# Altium schematic symbol library CONN_MICRO-MATCH.SchLib: 9 symbols
Pins are listed as number, name and electrical type; pins without a type are passive.

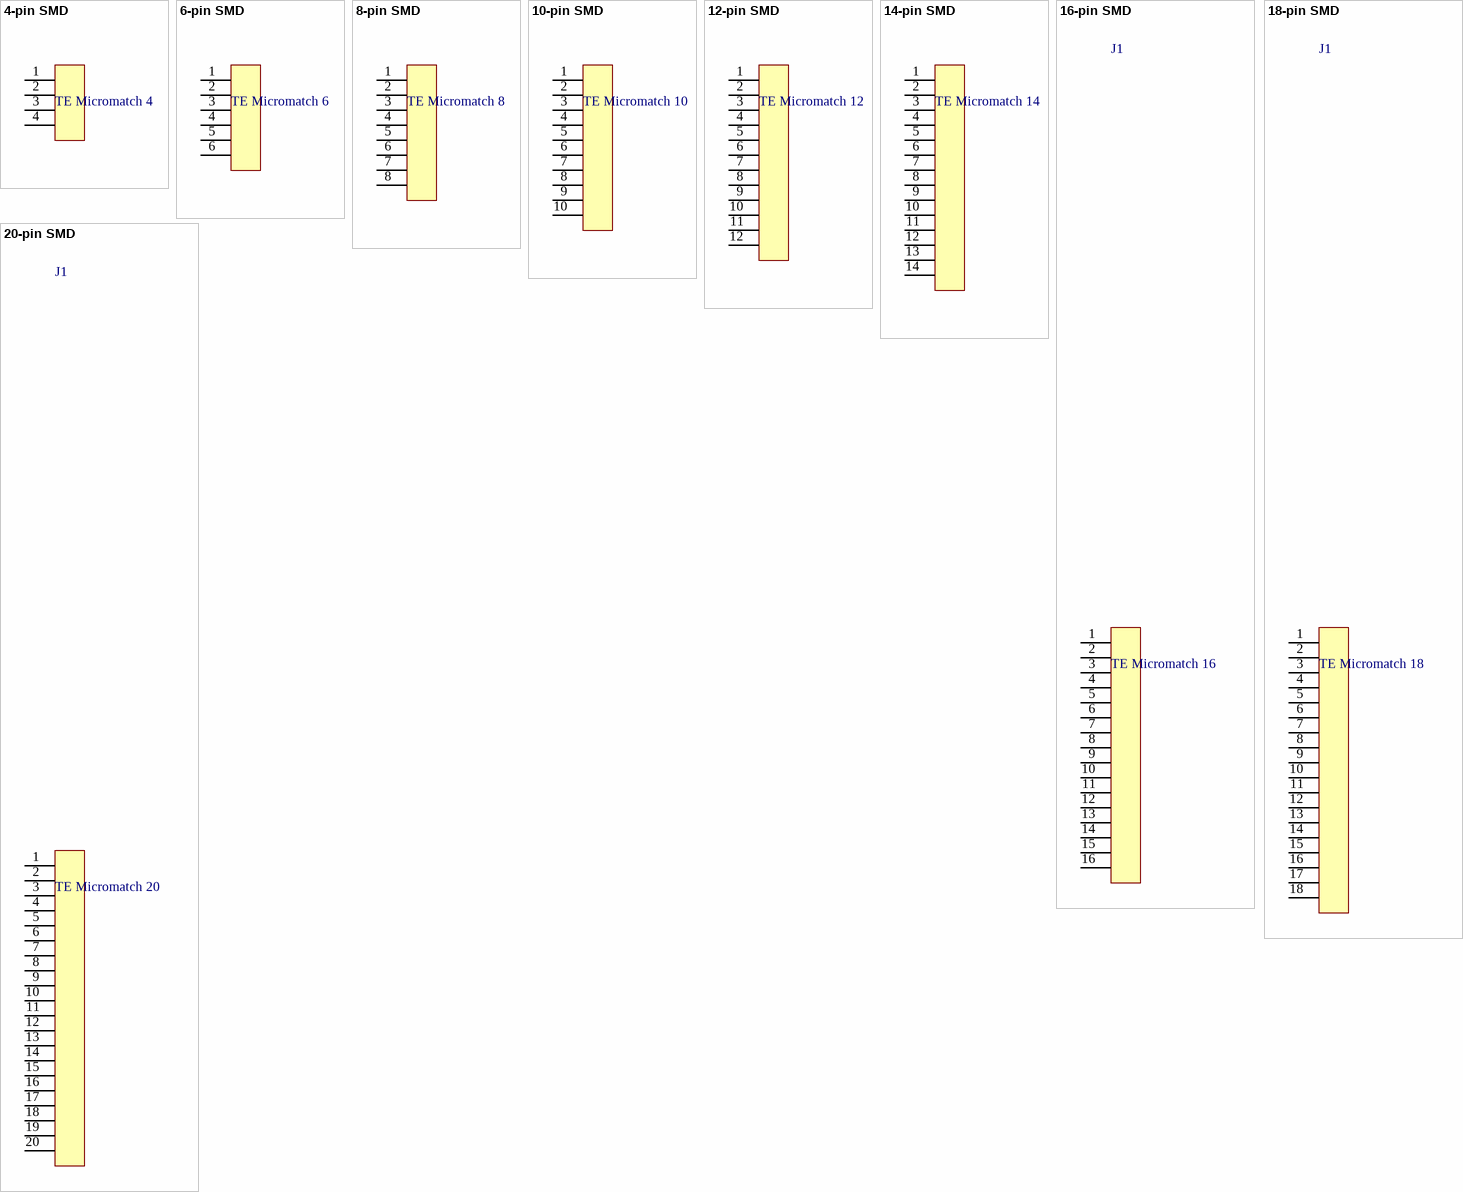
[diagram p0: symbols 4-pin SMD to 20-pin SMD]

## 4-pin SMD
designator J1, comment TE Micromatch 4
Micro-MaTch VALUE LINE FEMALE TOP ENTRY SMD CONNECTOR; Datasheet: http://www.te.com/commerce/DocumentDelivery/DDEController?Action=showdoc&DocId=Customer+Drawing%7F2178711%7FA%7Fpdf%7FEnglish%7FENG_CD_2178711_A_pdf_c-2178711_drw.pdf%7F2178711-4
footprint 4-pin_smd (2178711-4)
pins: 1, 2, 3, 4

## 6-pin SMD
designator J1, comment TE Micromatch 6
Micro-MaTch VALUE LINE FEMALE TOP ENTRY SMD CONNECTOR; Datasheet: http://www.te.com/commerce/DocumentDelivery/DDEController?Action=showdoc&DocId=Customer+Drawing%7F2178711%7FA%7Fpdf%7FEnglish%7FENG_CD_2178711_A_pdf_c-2178711_drw.pdf%7F2178711-4
footprint 6-pin_smd (2178711-6)
pins: 1, 2, 3, 4, 5, 6

## 8-pin SMD
designator J1, comment TE Micromatch 8
Micro-MaTch VALUE LINE FEMALE TOP ENTRY SMD CONNECTOR; Datasheet: http://www.te.com/commerce/DocumentDelivery/DDEController?Action=showdoc&DocId=Customer+Drawing%7F2178711%7FA%7Fpdf%7FEnglish%7FENG_CD_2178711_A_pdf_c-2178711_drw.pdf%7F2178711-4
footprint 8-pin_smd (2178711-8)
pins: 1, 2, 3, 4, 5, 6, 7, 8

## 10-pin SMD
designator J1, comment TE Micromatch 10
Micro-MaTch VALUE LINE FEMALE TOP ENTRY SMD CONNECTOR; Datasheet: http://www.te.com/commerce/DocumentDelivery/DDEController?Action=showdoc&DocId=Customer+Drawing%7F2178711%7FA%7Fpdf%7FEnglish%7FENG_CD_2178711_A_pdf_c-2178711_drw.pdf%7F2178711-4
footprint 10-pin_smd (1-2178711-0)
pins: 1, 2, 3, 4, 5, 6, 7, 8, 9, 10

## 12-pin SMD
designator J1, comment TE Micromatch 12
Micro-MaTch VALUE LINE FEMALE TOP ENTRY SMD CONNECTOR; Datasheet: http://www.te.com/commerce/DocumentDelivery/DDEController?Action=showdoc&DocId=Customer+Drawing%7F2178711%7FA%7Fpdf%7FEnglish%7FENG_CD_2178711_A_pdf_c-2178711_drw.pdf%7F2178711-4
footprint 12-pin_smd (1-2178711-2)
pins: 1, 2, 3, 4, 5, 6, 7, 8, 9, 10, 11, 12

## 14-pin SMD
designator J1, comment TE Micromatch 14
Micro-MaTch VALUE LINE FEMALE TOP ENTRY SMD CONNECTOR; Datasheet: http://www.te.com/commerce/DocumentDelivery/DDEController?Action=showdoc&DocId=Customer+Drawing%7F2178711%7FA%7Fpdf%7FEnglish%7FENG_CD_2178711_A_pdf_c-2178711_drw.pdf%7F2178711-4
footprint 14-pin_smd (1-2178711-4)
pins: 1, 2, 3, 4, 5, 6, 7, 8, 9, 10, 11, 12, 13, 14

## 16-pin SMD
designator J1, comment TE Micromatch 16
Micro-MaTch VALUE LINE FEMALE TOP ENTRY SMD CONNECTOR; Datasheet: http://www.te.com/commerce/DocumentDelivery/DDEController?Action=showdoc&DocId=Customer+Drawing%7F2178711%7FA%7Fpdf%7FEnglish%7FENG_CD_2178711_A_pdf_c-2178711_drw.pdf%7F2178711-4
footprint 16-pin_smd (1-2178711-6)
pins: 1, 2, 3, 4, 5, 6, 7, 8, 9, 10, 11, 12, 13, 14, 15, 16

## 18-pin SMD
designator J1, comment TE Micromatch 18
Micro-MaTch VALUE LINE FEMALE TOP ENTRY SMD CONNECTOR; Datasheet: http://www.te.com/commerce/DocumentDelivery/DDEController?Action=showdoc&DocId=Customer+Drawing%7F2178711%7FA%7Fpdf%7FEnglish%7FENG_CD_2178711_A_pdf_c-2178711_drw.pdf%7F2178711-4
footprint 18-pin_smd (1-2178711-8)
pins: 1, 2, 3, 4, 5, 6, 7, 8, 9, 10, 11, 12, 13, 14, 15, 16, 17, 18

## 20-pin SMD
designator J1, comment TE Micromatch 20
Micro-MaTch VALUE LINE FEMALE TOP ENTRY SMD CONNECTOR; Datasheet: http://www.te.com/commerce/DocumentDelivery/DDEController?Action=showdoc&DocId=Customer+Drawing%7F2178711%7FA%7Fpdf%7FEnglish%7FENG_CD_2178711_A_pdf_c-2178711_drw.pdf%7F2178711-4
footprint 20-pin_smd (2-2178711-0)
pins: 1, 2, 3, 4, 5, 6, 7, 8, 9, 10, 11, 12, 13, 14, 15, 16, 17, 18, 19, 20